# Altium footprint library SnapEDApcb.PcbLib: 1 footprints
Each footprint in its own frame and in the unit in brackets; x right, y up, seen from the top. Pads: shape width x height; smd on the part's side, far side on the other; paste and mask are expansions set on the pad; w line width, h text height; cw(c..) or ccw(c..) is an arc to the next point about the centre after c.
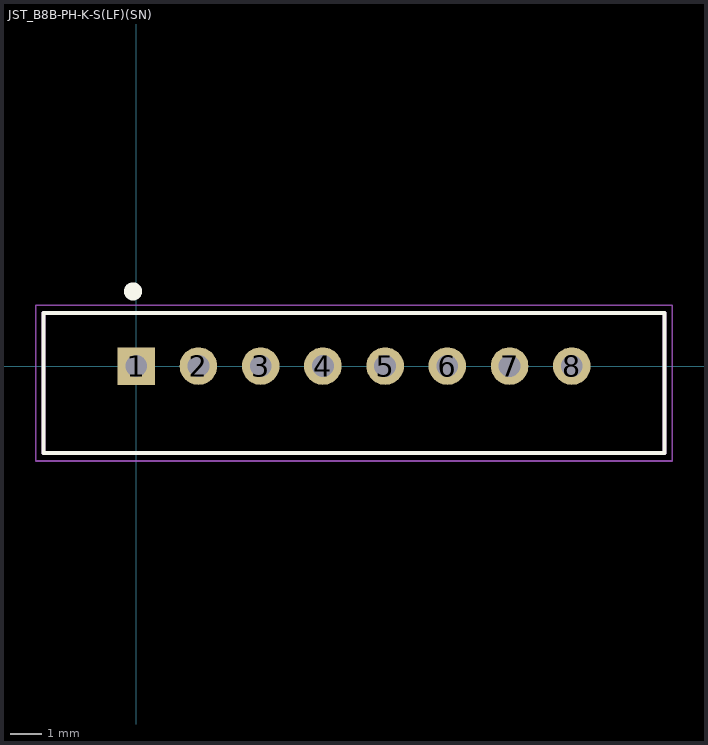
[diagram p0: the footprint, top view; thin cyan lines are the x and y axes]

## JST_B8B-PH-K-S(LF)(SN) [mm]
pads (8):
  rect 1.208x1.208 hole 0.7: 1(0,0)
  round 1.208 hole 0.7: 2(2,0) 3(4,0) 4(6,0) 5(8,0) 6(10,0) 7(12,0) 8(14,0)
Top Overlay:
  circle w0.3: c-0.1,2.4 r0.141
  lines w0.127: -2.975,-2.8 16.975,-2.8 16.975,1.7 -2.975,1.7 -2.975,-2.8
Mechanical 13:
  lines w0.127: -2.975,-2.8 16.975,-2.8 16.975,1.7 -2.975,1.7 -2.975,-2.8
Mechanical 15:
  lines w0.05: -3.225,-3.05 17.225,-3.05 17.225,1.95 -3.225,1.95 -3.225,-3.05